# EAGLE library part CP210* (library CP2102_silabs)
Single-Chip USB to UART Bridge Source: www.silabs.com .. CP2101.pdf / cp2102.pdf
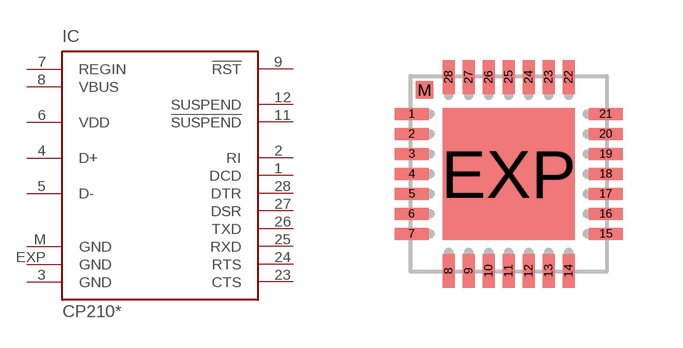
[diagram p6: symbol with the pads of MLP28; footprint MLP28]

Designator prefix IC

## CP2101 (MF: FARNELL; MPN: CP2102-GM; OC_FARNELL: 9282130; OC_NEWARK: 30K5635), CP2102 (MF: FARNELL; MPN: CP2102-GM; OC_FARNELL: 9282130; OC_NEWARK: 30K5635)  [MLP28]
1  DCD  in
2  RI  in
3  GND  pwr
4  D+
5  D-
6  VDD  pwr
7  REGIN  pas
8  VBUS  in
9  !RST
11  !SUSPEND  out
12  SUSPEND  out
23  CTS  in
24  RTS  out
25  RXD  in
26  TXD  out
27  DSR  in
28  DTR  out
EXP  GND  pwr
M  GND  pwr

## Footprint MLP28 (pad centres in mm)
MLP 28 Source: www.silabs.com .. CP2101.pdf
smd 0.854 x 0.3: 1 -2.427,1.5; 2 -2.427,1; 3 -2.427,0.5; 4 -2.427,0; 5 -2.427,-0.5; 6 -2.427,-1; 7 -2.427,-1.5; 15 2.427,-1.5; 16 2.427,-1; 17 2.427,-0.5; 18 2.427,0; 19 2.427,0.5; 20 2.427,1; 21 2.427,1.5
smd 0.3 x 0.854: 8 -1.5,-2.427; 9 -1,-2.427; 10 -0.5,-2.427; 11 0,-2.427; 12 0.5,-2.427; 13 1,-2.427; 14 1.5,-2.427; 22 1.5,2.427; 23 1,2.427; 24 0.5,2.427; 25 0,2.427; 26 -0.5,2.427; 27 -1,2.427; 28 -1.5,2.427
smd 3.3 x 3.3: EXP 0,0
smd 0.435 x 0.435: M -2.103,2.103